# EAGLE library part BMG160 (library custom_parts)
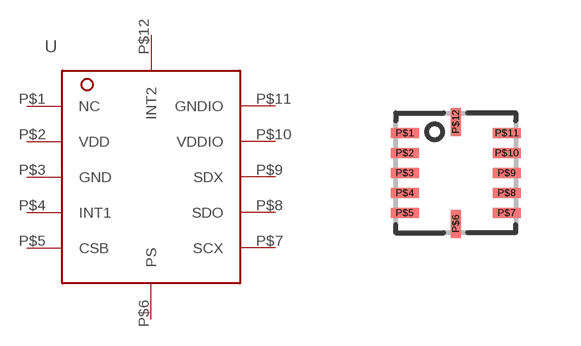
[diagram p2: symbol with the pads of BMG160; footprint BMG160]

Designator prefix -

## BMG160  [BMG160]
P$1  NC
P$2  VDD
P$3  GND
P$4  INT1
P$5  CSB
P$6  PS
P$7  SCX
P$8  SDO
P$9  SDX
P$10  VDDIO
P$11  GNDIO
P$12  INT2

## Footprint BMG160 (pad centres in mm)
smd 0.7 x 0.25: P$1 -1.275,1; P$2 -1.275,0.5; P$3 -1.275,0; P$4 -1.275,-0.5; P$5 -1.275,-1; P$7 1.275,-1; P$8 1.275,-0.5; P$9 1.275,0; P$10 1.275,0.5; P$11 1.275,1
smd 0.25 x 0.7: P$6 0,-1.275; P$12 0,1.275